# Altium schematic symbol library DIODE,Gen,600V,3A,SMB.Schlib: 1 symbol
Pins are listed as number, name and electrical type; pins without a type are passive.

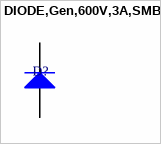
[diagram p0: symbol DIODE,Gen,600V,3A,SMB]

## DIODE,Gen,600V,3A,SMB
designator D?
pins: 1 K, 2 A